# EAGLE library part BMP280_6PIN_BKOUT (library microbuilder)
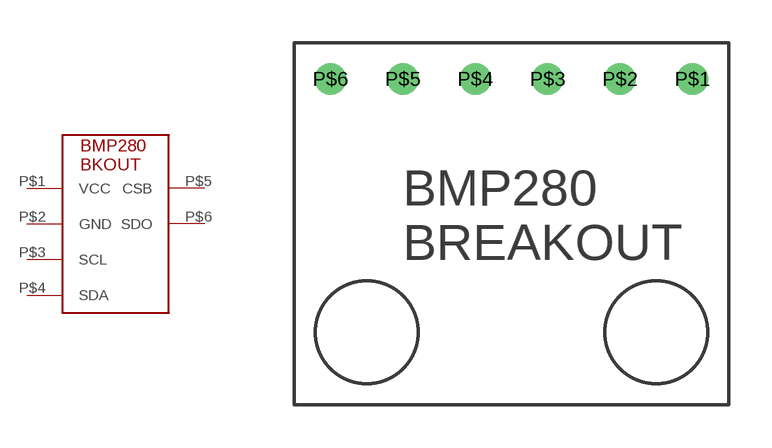
[diagram p133: symbol with the pads of BMP280_6PIN_BKOUT; footprint BMP280_6PIN_BKOUT]

Designator prefix U

## BMP280_6PIN_BKOUT  [BMP280_6PIN_BKOUT]
P$1  VCC
P$2  GND
P$3  SCL
P$4  SDA
P$5  CSB
P$6  SDO

## Footprint BMP280_6PIN_BKOUT (pad centres in mm)
drill 0.6: P$1 6.35,3.81; P$2 3.81,3.81; P$3 1.27,3.81; P$4 -1.27,3.81; P$5 -3.81,3.81; P$6 -6.35,3.81